# Altium schematic symbol library INA219.SchLib: 1 symbol
Pins are listed as number, name and electrical type; pins without a type are passive.

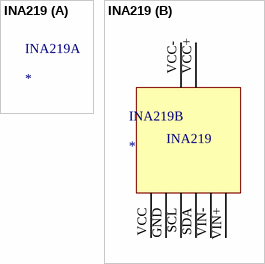
[diagram p0: symbol INA219]

## INA219
designator INA219
footprint INA219
part B pins: GND 51, SCL 52, SDA 53, VCC 50, VCC+, VCC- VIN-, VIN+ 55, VIN- 54